# EAGLE library part ATECC508A (library Aldebaran)
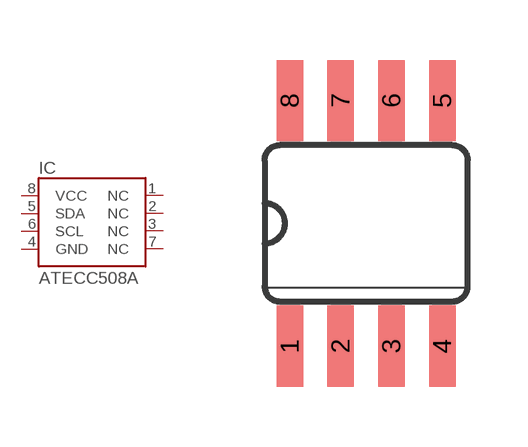
[diagram p3: symbol with the pads of SO08; footprint SO08]

Designator prefix IC

## ATECC508A  [SO08]
1  NC  nc
2  NC  nc
3  NC  nc
4  GND
5  SDA
6  SCL
7  NC  nc
8  VCC

## Footprint SO08 (pad centres in mm)
Small Outline Package SOIC 150 mil
smd 0.66 x 2.032: 1 -1.905,-3.073; 2 -0.635,-3.073; 3 0.635,-3.073; 4 1.905,-3.073; 5 1.905,3.073; 6 0.635,3.073; 7 -0.635,3.073; 8 -1.905,3.073